# Altium integrated library CPT-1255C-090.IntLib: 1 symbol
Pins are listed as number, name and electrical type; pins without a type are passive.

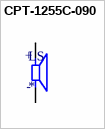
[diagram p0: symbol CPT-1255C-090]

## CPT-1255C-090
designator LS
12 mm, 20 Vp-p, 80 dB, Through Hole, Piezo Audio Transducer Buzzer; MF: CUI Devices; MP: CPT-1255C-090; SnapEDA_Link: https://www.snapeda.com/parts/CPT-1255C-090/CUI%20Devices/view-part/2202985/?ref=snap; Availability: Unavailable; Price: None; Value: *
footprint CUI_CPT-1255C-090
pins: N, P
text: +; -